# EAGLE library part SN74LS08 (library logicIC)
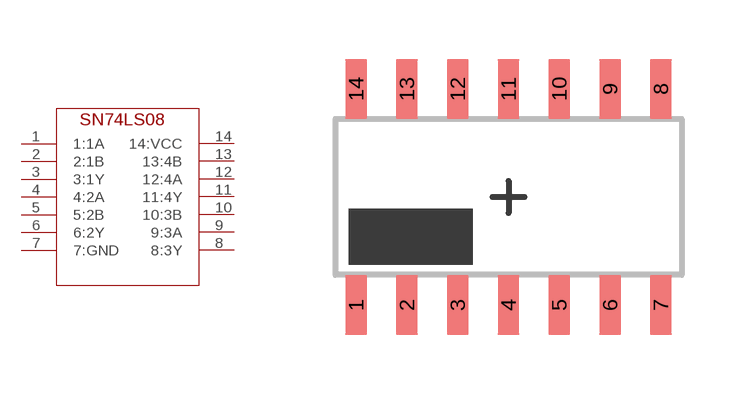
[diagram p2: symbol with the pads of SO14; footprint SO14]

Designator prefix -

## SN74LS08  [SO14]
1  1:1A  in
2  2:1B  in
3  3:1Y  out
4  4:2A  in
5  5:2B  in
6  6:2Y  out
7  7:GND  pwr
8  8:3Y  out
9  9:3A  in
10  10:3B  in
11  11:4Y  out
12  12:4A  in
13  13:4B  in
14  14:VCC  pwr

## Footprint SO14 (pad centres in mm)
smd 0.55 x 1.5: 1 -3.81,-2.7; 2 -2.54,-2.7; 3 -1.27,-2.7; 4 0,-2.7; 5 1.27,-2.7; 6 2.54,-2.7; 7 3.81,-2.7; 8 3.81,2.7; 9 2.54,2.7; 10 1.27,2.7; 11 0,2.7; 12 -1.27,2.7; 13 -2.54,2.7; 14 -3.81,2.7